# EAGLE library part MICRO_SD (library custom)
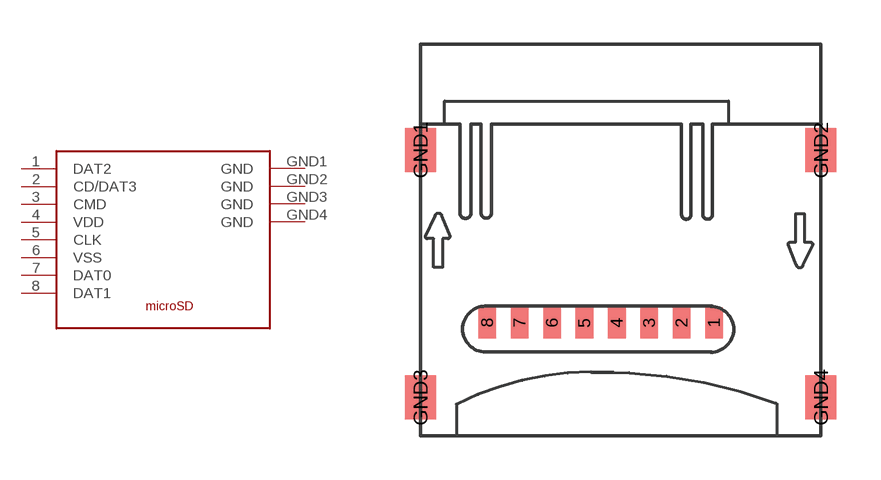
[diagram p1: symbol with the pads of MICRO_SD; footprint MICRO_SD]

Designator prefix -

## MICRO_SD  [MICRO_SD]
1  DAT2  pas
2  CD/DAT3  pas
3  CMD  pas
4  VDD  pas
5  CLK  pas
6  VSS  pas
7  DAT0  pas
8  DAT1  pas
GND1  GND  pas
GND2  GND  pas
GND3  GND  pas
GND4  GND  pas

## Footprint MICRO_SD (pad centres in mm)
smd 0.6 x 1.05: 1 9.97,3.83; 2 8.87,3.83; 3 7.77,3.83; 4 6.67,3.83; 5 5.57,3.83; 6 4.47,3.83; 7 3.37,3.83; 8 2.27,3.83
smd 1.05 x 1.5: GND1 0,9.7; GND2 13.6,9.7; GND3 0,1.3; GND4 13.6,1.3